# EAGLE library part ARDUINO2009_2 (library arduino_layout)
The Arduino Duemilanove ("2009") is a microcontroller board based on the ATmega168 or ATmega328. - 14 digital input/output pins (of which 6 can be used as PWM outputs) - 6 analog inputs, a 16 MHz crystal oscillator - USB connection - power jack - ISP header - reset button It contains everything needed to support the microcontroller; simply connect it to a computer with a USB cable or power it with a AC-to-DC adapter or battery to get started http://arduino.cc/en/Main/ArduinoBoardDuemilanove
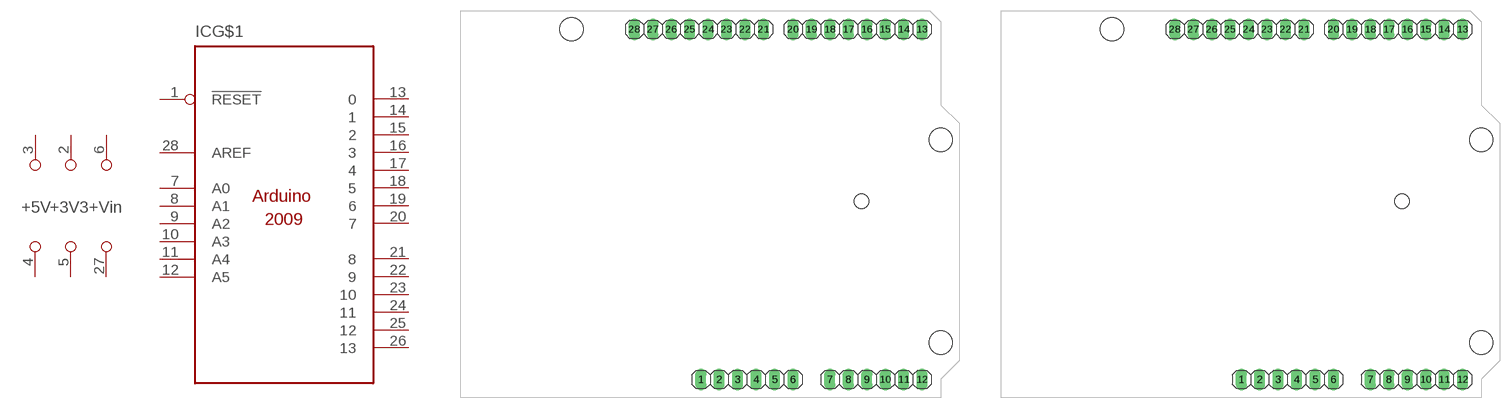
[diagram p2: symbol with the pads of ARDUINO2009; footprints ARDUINO2009, ARDUINO2009_1]

Designator prefix IC; gates G$1=ARDUNIO2009_1 G$2=PWR5V G$3=PWR3V3 G$4=PWRVIN

## ARDUINO2009_20  [ARDUINO2009]
1  G$1:!RESET
2  G$3:+3V3  pwr
3  G$2:+5V  pwr
4  G$2:GND  pwr
5  G$3:GND  pwr
6  G$4:+VIN  pwr
7  G$1:A0
8  G$1:A1
9  G$1:A2
10  G$1:A3
11  G$1:A4
12  G$1:A5
13  G$1:0
14  G$1:1
15  G$1:2
16  G$1:3
17  G$1:4
18  G$1:5
19  G$1:6
20  G$1:7
21  G$1:8
22  G$1:9
23  G$1:10
24  G$1:11
25  G$1:12
26  G$1:13
27  G$4:GND  pwr
28  G$1:AREF

## ARDUINO2009_21  [ARDUINO2009_1]
Pads as for ARDUINO2009

## ARDUINO2009_22  [ARDUINO2009_2]
Pads as for ARDUINO2009

## Footprint ARDUINO2009 (pad centres in mm)
drill 1.016 long: 1 33.02,2.54; 2 35.56,2.54; 3 38.1,2.54; 4 40.64,2.54; 5 43.18,2.54; 6 45.72,2.54; 7 50.8,2.54; 8 53.34,2.54; 9 55.88,2.54; 10 58.42,2.54; 11 60.96,2.54; 12 63.5,2.54; 13 63.5,50.8; 14 60.96,50.8; 15 58.42,50.8; 16 55.88,50.8; 17 53.34,50.8; 18 50.8,50.8; 19 48.26,50.8; 20 45.72,50.8; 21 41.656,50.8; 22 39.116,50.8; 23 36.576,50.8; 24 34.036,50.8; 25 31.496,50.8; 26 28.956,50.8; 27 26.416,50.8; 28 23.876,50.8
hole 3.2 at 15.24,50.8
hole 3.2 at 66.04,35.56
hole 3.2 at 66.04,7.62
hole 2 at 55.17,27.114

## Footprint ARDUINO2009_1 (pad centres in mm)
drill 1.016 long: 1 33.02,2.54; 2 35.56,2.54; 3 38.1,2.54; 4 40.64,2.54; 5 43.18,2.54; 6 45.72,2.54; 7 50.8,2.54; 8 53.34,2.54; 9 55.88,2.54; 10 58.42,2.54; 11 60.96,2.54; 12 63.5,2.54; 13 63.5,50.8; 14 60.96,50.8; 15 58.42,50.8; 16 55.88,50.8; 17 53.34,50.8; 18 50.8,50.8; 19 48.26,50.8; 20 45.72,50.8; 21 41.656,50.8; 22 39.116,50.8; 23 36.576,50.8; 24 34.036,50.8; 25 31.496,50.8; 26 28.956,50.8; 27 26.416,50.8; 28 23.876,50.8
hole 3.2 at 15.24,50.8
hole 3.2 at 66.04,35.56
hole 3.2 at 66.04,7.62
hole 2 at 55.17,27.114

## Footprint ARDUINO2009_2 (pad centres in mm)
drill 1.016 long: 1 33.02,2.54; 2 35.56,2.54; 3 38.1,2.54; 4 40.64,2.54; 5 43.18,2.54; 6 45.72,2.54; 7 50.8,2.54; 8 53.34,2.54; 9 55.88,2.54; 10 58.42,2.54; 11 60.96,2.54; 12 63.5,2.54; 13 63.5,50.8; 14 60.96,50.8; 15 58.42,50.8; 16 55.88,50.8; 17 53.34,50.8; 18 50.8,50.8; 19 48.26,50.8; 20 45.72,50.8; 21 41.656,50.8; 22 39.116,50.8; 23 36.576,50.8; 24 34.036,50.8; 25 31.496,50.8; 26 28.956,50.8; 27 26.416,50.8; 28 23.876,50.8
hole 3.2 at 15.24,50.8
hole 3.2 at 66.04,35.56
hole 3.2 at 66.04,7.62